# EAGLE library part CON_02X05 (library PP_Connectors)
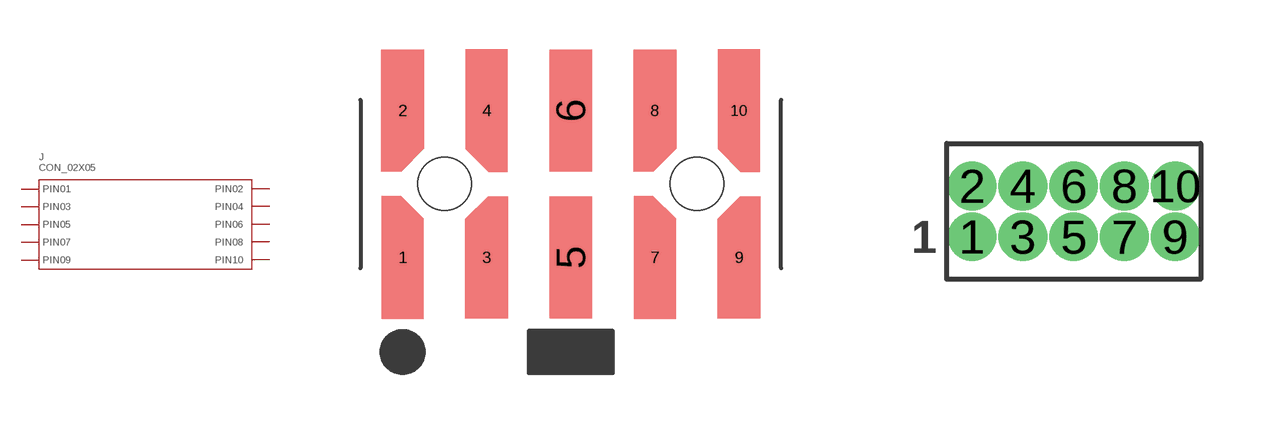
[diagram p18: symbol with the pads of 15-91-1102; footprints 15-91-1102, GRPB052VWVN-RC]

Designator prefix J

## CON_02X05_15-91-1102 (MPN: 15-91-1102; POPULATE: 1; VALUE: 15-91-1102)  [15-91-1102]
1  PIN1
2  PIN2
3  PIN3
4  PIN4
5  PIN5
6  PIN6
7  PIN7
8  PIN8
9  PIN9
10  PIN10

## CON_02X05_GRPB052VWVN-RC (MPN: GRPB052VWVN-RC; POPULATE: 1; VALUE: GRPB052VWVN-RC)  [GRPB052VWVN-RC]
Pads as for 15-91-1102

## CON_02X05_5103308-1 (MPN: 5103308-1; POPULATE: 1; VALUE: 5103308-1)  [5103308-1]
Pads as for 15-91-1102

## Footprint 15-91-1102 (pad centres in mm)
smd 0.5 x 0.5: 1 -5.08,-2.22; 2 -5.08,2.22; 3 -2.54,-2.22; 4 -2.54,2.22; 7 2.54,-2.22; 8 2.54,2.22; 9 5.08,-2.22; 10 5.08,2.22
smd 1.27 x 3.68: 5 0,-2.22; 6 0,2.22
hole 1.6 at -3.81,0
hole 1.6 at 3.81,0

## Footprint GRPB052VWVN-RC (pad centres in mm)
drill 0.711 pad 1.016: 1 -2.54,-0.635; 2 -2.54,0.635; 3 -1.27,-0.635; 4 -1.27,0.635; 5 0,-0.635; 6 0,0.635; 7 1.27,-0.635; 8 1.27,0.635; 9 2.54,-0.635; 10 2.54,0.635

## Footprint 5103308-1 (pad centres in mm)
drill 0.9 square: 1 5.08,1.27; 2 5.08,-1.27; 3 2.54,1.27; 4 2.54,-1.27; 5 0,1.27; 6 0,-1.27; 7 -2.54,1.27; 8 -2.54,-1.27; 9 -5.08,1.27; 10 -5.08,-1.27